# Altium footprint library Tama_PcbLib.PcbLib: 35 footprints (part 1 of 3)
Each footprint in its own frame and in the unit in brackets; x right, y up, seen from the top. Pads: shape width x height; smd on the part's side, far side on the other; paste and mask are expansions set on the pad; w line width, h text height; cw(c..) or ccw(c..) is an arc to the next point about the centre after c.
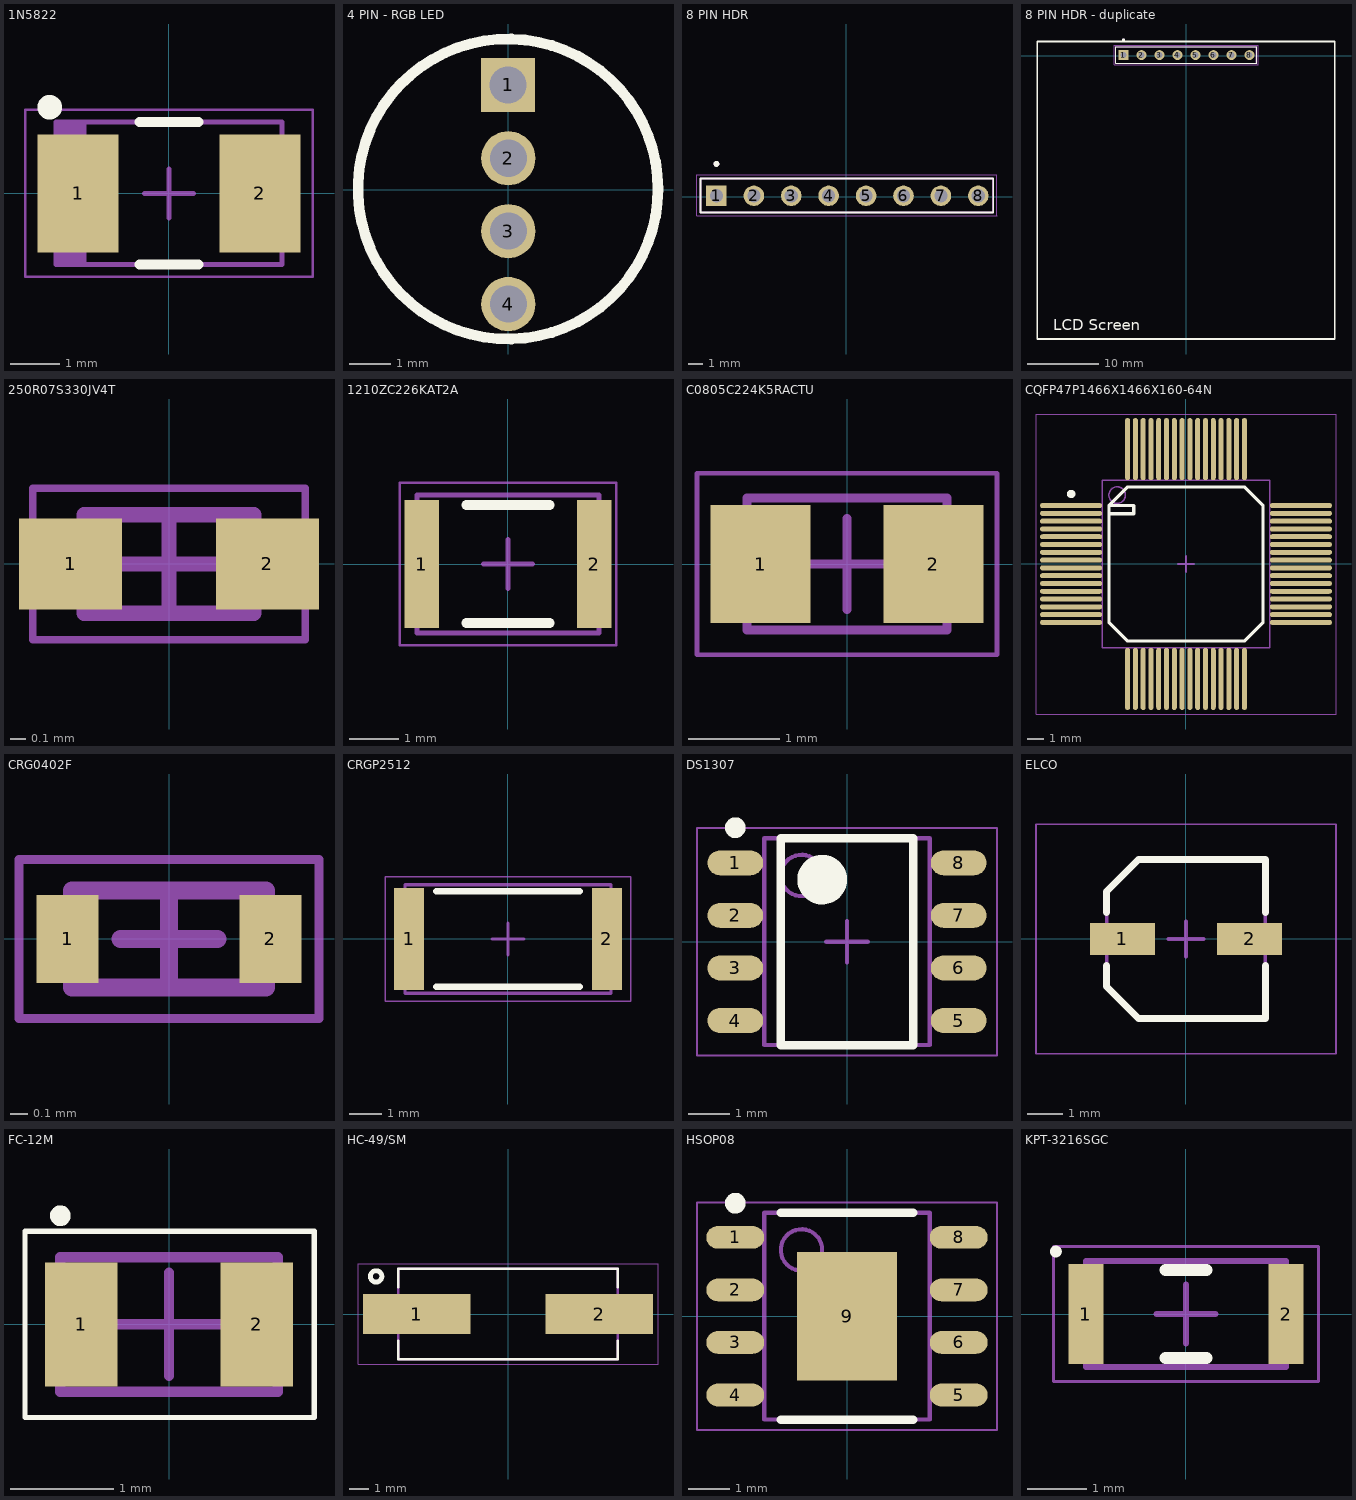
[diagram p0: the footprints below, top view; thin cyan lines are the x and y axes]

## 1N5822 [mm] "1N5822 - SS34"
height 2.44
pads (2):
  rect 1.65x2.4 smd: 1(-1.85,0) 2(1.85,0)
Top Overlay:
  circle w0.25: c-2.425,1.75 r0.125
  lines w0.2: -0.6,-1.45 0.6,-1.45 ; -0.6,1.45 0.6,1.45
Mechanical 13:
  rectangle: -2.3,-1.45 -1.681,1.45
  lines w0.1: -2.3,-1.45 2.3,-1.45 2.3,1.45 -2.3,1.45 -2.3,-1.45
Mechanical 15:
  lines w0.05: -2.925,-1.7 2.925,-1.7 2.925,1.7 -2.925,1.7 -2.925,-1.7
  lines w0.1: -0.5,0 0.5,0 ; 0,-0.5 0,0.5
3D body "1N5822.step": height 2.44, standoff 0, extent -2.52,-1.45 2.52,1.45

## 4 PIN - RGB LED [mm]
pads (4):
  rect 1.3x1.3 hole 0.89: 1(-0.007,2.512)
  round 1.3 hole 0.89: 2(0,0.75) 3(0,-1) 4(0,-2.75)
Top Overlay:
  circle w0.254: c-0.007,0.012 r3.6
3D body "WP154A4.STEP": height 8.61, standoff -24.49, extent -2.924,-2.698 2.976,2.752

## 8 PIN HDR [mm] "Header for LCD display"
pads (8):
  rect 1.398x1.398 hole 0.89: 1(-8.822,0.066)
  round 1.398 hole 0.89: 2(-6.282,0.066) 3(-3.742,0.066) 4(-1.202,0.066) 5(1.338,0.066) 6(3.878,0.066) 7(6.418,0.066) 8(8.958,0.066)
Top Overlay:
  circle w0.2: c-8.822,2.236 r0.1
  lines w0.127: 9.946,1.236 -9.892,1.236 -9.892,-1.077 7.434,-1.077 9.974,-1.077 9.974,1.209
Mechanical 13:
  circle w0.2: c-8.822,2.236 r0.1
  lines w0.127: 9.946,1.236 -9.892,1.236 -9.892,-1.077 9.947,-1.077 9.947,1.236
Mechanical 15:
  lines w0.05: 10.205,-1.258 10.205,1.486 -10.142,1.486 -10.142,-1.281 10.228,-1.281

## 8 PIN HDR - duplicate [mm] "Header for LCD display"
pads (8):
  rect 1.398x1.398 hole 0.89: 1(-8.822,0.066)
  round 1.398 hole 0.89: 2(-6.282,0.066) 3(-3.742,0.066) 4(-1.202,0.066) 5(1.338,0.066) 6(3.878,0.066) 7(6.418,0.066) 8(8.958,0.066)
Top Overlay:
  circle w0.2: c-8.822,2.236 r0.1
  lines w0.127: 9.946,1.236 -9.892,1.236 -9.892,-1.077 7.434,-1.077 9.974,-1.077 9.974,1.209
  lines w0.254: -21,-33 -21,2 9,2 21,2 21,-40 9,-40 -21,-40 -21,-30
  text "LCD Screen" at -18.746,-38.746 h1.52
Mechanical 13:
  circle w0.2: c-8.822,2.236 r0.1
  lines w0.127: 9.946,1.236 -9.892,1.236 -9.892,-1.077 9.947,-1.077 9.947,1.236
Mechanical 15:
  lines w0.05: 10.205,-1.258 10.205,1.486 -10.142,1.486 -10.142,-1.281 10.228,-1.281
3D body "graphic_lcd_nokia_5110.STEP": height 6, standoff -1.02, extent -22.436,-42.422 22.564,2.578

## 250R07S330JV4T [mm] "250R07S330JV4T - 0402 Capacitor"
height 0.61
pads (2):
  rect 0.68x0.6 smd: 1(-0.65,0) 2(0.65,0)
Mechanical 13:
  lines w0.1: -0.56,-0.325 0.56,-0.325 0.56,0.325 -0.56,0.325 -0.56,-0.325
Mechanical 15:
  lines w0.05: -0.9,-0.5 0.9,-0.5 0.9,0.5 -0.9,0.5 -0.9,-0.5
  lines w0.1: -0.325,0 0.325,0 ; 0,-0.325 0,0.325
3D body "250R07S330JV4T.step": height 0.61, standoff 0, extent -0.56,-0.325 0.56,0.325

## 1210ZC226KAT2A [mm] "1210ZC226KAT2A - 1210 SMD capacitor"
height 3.3
pads (2):
  rect 0.7x2.6 smd: 1(-1.75,0) 2(1.75,0)
Top Overlay:
  lines w0.2: -0.85,-1.2 0.85,-1.2 ; -0.85,1.2 0.85,1.2
Mechanical 13:
  lines w0.1: -1.85,-1.4 -1.85,1.4 1.85,1.4 1.85,-1.4 -1.85,-1.4
Mechanical 15:
  lines w0.05: -2.2,-1.65 -2.2,1.65 2.2,1.65 2.2,-1.65 -2.2,-1.65
  lines w0.1: -0.5,0 0.5,0 ; 0,-0.5 0,0.5
3D body: height 0.25, standoff 0, extent -1.85,-1.4 1.85,1.4

## C0805C224K5RACTU [mm] "C0805C224K5RACTU - 0805 SMD Capacitor"
height 1.4
pads (2):
  rect 1.1x1.3 smd: 1(-0.95,0) 2(0.95,0)
Mechanical 13:
  lines w0.1: -1.1,-0.725 1.1,-0.725 1.1,0.725 -1.1,0.725 -1.1,-0.725
Mechanical 15:
  lines w0.05: -1.65,-1 1.65,-1 1.65,1 -1.65,1 -1.65,-1
  lines w0.1: -0.5,0 0.5,0 ; 0,-0.5 0,0.5
3D body "C0805C224K5RACTU.step": height 1.4, standoff 0, extent -1.1,-0.725 1.1,0.725

## CQFP47P1466X1466X160-64N [mm] "CQFP, 64-Leads, Body 14,66x14,66mm, Pitch 0,47mm, IPC Medium Density"
height 1.6
pads (64):
  oval 3.75x0.3 smd: 1(-6.93,3.525) 2(-6.93,3.055) 3(-6.93,2.585) 4(-6.93,2.115) 5(-6.93,1.645) 6(-6.93,1.175) 7(-6.93,0.705) 8(-6.93,0.235) 9(-6.93,-0.235) 10(-6.93,-0.705) 11(-6.93,-1.175) 12(-6.93,-1.645) 13(-6.93,-2.115) 14(-6.93,-2.585) 15(-6.93,-3.055) 16(-6.93,-3.525) 33(6.93,-3.525) 34(6.93,-3.055) 35(6.93,-2.585) 36(6.93,-2.115) 37(6.93,-1.645) 38(6.93,-1.175) 39(6.93,-0.705) 40(6.93,-0.235) 41(6.93,0.235) 42(6.93,0.705) 43(6.93,1.175) 44(6.93,1.645) 45(6.93,2.115) 46(6.93,2.585) 47(6.93,3.055) 48(6.93,3.525)
  oval 0.3x3.75 smd: 17(-3.525,-6.93) 18(-3.055,-6.93) 19(-2.585,-6.93) 20(-2.115,-6.93) 21(-1.645,-6.93) 22(-1.175,-6.93) 23(-0.705,-6.93) 24(-0.235,-6.93) 25(0.235,-6.93) 26(0.705,-6.93) 27(1.175,-6.93) 28(1.645,-6.93) 29(2.115,-6.93) 30(2.585,-6.93) 31(3.055,-6.93) 32(3.525,-6.93) 49(3.525,6.93) 50(3.055,6.93) 51(2.585,6.93) 52(2.115,6.93) 53(1.645,6.93) 54(1.175,6.93) 55(0.705,6.93) 56(0.235,6.93) 57(-0.235,6.93) 58(-0.705,6.93) 59(-1.175,6.93) 60(-1.645,6.93) 61(-2.115,6.93) 62(-2.585,6.93) 63(-3.055,6.93) 64(-3.525,6.93)
Top Overlay:
  circle w0.25: c-6.93,4.225 r0.125
  lines w0.2: -4.65,3.025 -3.15,3.025 -3.15,3.525 -4.65,3.525 ; -4.65,3.525 -4.65,-3.525 -3.525,-4.65 3.525,-4.65 4.65,-3.525 4.65,3.525 3.525,4.65 -3.525,4.65 -4.65,3.525
Mechanical 13:
  circle w0.1: c-4.155,4.155 r0.5
  lines w0.1: -5.055,-5.055 -5.055,5.055 5.055,5.055 5.055,-5.055 -5.055,-5.055
Mechanical 15:
  lines w0.05: -9.05,-9.05 -9.05,9.05 9.05,9.05 9.05,-9.05 -9.05,-9.05
  lines w0.1: -0.5,0 0.5,0 ; 0,-0.5 0,0.5
3D body "CQFP47P1466X1466X160-64N.step": height 1.45, standoff 0, extent -8.455,-8.455 8.455,8.455

## CRG0402F [mm] "CRG0402F - 0402 SMD Resistor"
height 0.4
pads (2):
  rect 0.35x0.5 smd: 1(-0.575,0) 2(0.575,0)
Mechanical 13:
  lines w0.1: -0.55,-0.275 -0.55,0.275 0.55,0.275 0.55,-0.275 -0.55,-0.275
Mechanical 15:
  lines w0.05: -0.85,-0.45 -0.85,0.45 0.85,0.45 0.85,-0.45 -0.85,-0.45
  lines w0.1: -0.275,0 0.275,0 ; 0,-0.275 0,0.275
3D body "CRG0402F.step": height 0.4, standoff 0, extent -0.55,-0.275 0.55,0.275

## CRGP2512 [mm] "CRGP 2512 - SMD Resistor"
height 0.65
pads (2):
  rect 0.95x3.2 smd: 1(-3.1,0) 2(3.1,0)
Top Overlay:
  lines w0.2: -2.25,-1.5 2.25,-1.5 ; -2.25,1.5 2.25,1.5
Mechanical 13:
  lines w0.1: -3.225,-1.7 -3.225,1.7 3.225,1.7 3.225,-1.7 -3.225,-1.7
Mechanical 15:
  lines w0.05: -3.85,-1.95 -3.85,1.95 3.85,1.95 3.85,-1.95 -3.85,-1.95
  lines w0.1: -0.5,0 0.5,0 ; 0,-0.5 0,0.5
3D body "CRGP2512.step": height 0.65, standoff 0, extent -3.225,-1.7 3.225,1.7

## DS1307 [mm] "DS1307"
height 1.75
pads (8):
  oval 1.35x0.6 smd: 1(-2.7,1.905) 2(-2.7,0.635) 3(-2.7,-0.635) 4(-2.7,-1.905) 5(2.7,-1.905) 6(2.7,-0.635) 7(2.7,0.635) 8(2.7,1.905)
Top Overlay:
  circle w0.25: c-2.7,2.755 r0.125
  circle w0.6: c-0.6,1.5 r0.3
  lines w0.2: -1.6,-2.5 -1.6,2.5 1.6,2.5 1.6,-2.5 -1.6,-2.5
Mechanical 13:
  circle w0.1: c-1.1,1.6 r0.5
  lines w0.1: -2,-2.5 -2,2.5 2,2.5 2,-2.5 -2,-2.5
Mechanical 15:
  lines w0.05: -3.625,-2.75 -3.625,2.75 3.625,2.75 3.625,-2.75 -3.625,-2.75
  lines w0.1: -0.5,0 0.5,0 ; 0,-0.5 0,0.5
3D body "DS1307.step": height 1.75, standoff 0, extent -3,-2.5 3,2.5

## ELCO [mm] "ELCO CAP"
height 6.1
pads (2):
  rect 1.85x0.9 smd: 1(-1.8,0) 2(1.8,0)
Top Overlay:
  lines w0.2: -2.25,-0.75 -2.25,-1.35 -1.35,-2.25 2.25,-2.25 2.25,-0.75 ; -2.25,0.75 -2.25,1.35 -1.35,2.25 2.25,2.25 2.25,0.75
Mechanical 13:
  lines w0.1: -2.25,-1.35 -2.25,1.35 -1.35,2.25 2.25,2.25 2.25,-2.25 -1.35,-2.25 -2.25,-1.35
Mechanical 15:
  lines w0.05: -4.25,-3.25 4.25,-3.25 4.25,3.25 -4.25,3.25 -4.25,-3.25
  lines w0.1: -0.5,0 0.5,0 ; 0,-0.5 0,0.5
3D body "ELCO.step": height 6.1, standoff 0, extent -2.425,-2.25 2.425,2.25

## FC-12M [mm] "FC-12M - Clock"
height 0.6
pads (2):
  rect 0.7x1.2 smd: 1(-0.85,0) 2(0.85,0)
Top Overlay:
  circle w0.1: c-1.05,1.05 r0.05
  lines w0.05: -1.393,-0.9 -1.393,0.9 1.404,0.9 1.404,-0.9 -1.393,-0.9
Mechanical 13:
  lines w0.1: -1.05,-0.65 1.05,-0.65 1.05,0.65 -1.05,0.65 -1.05,-0.65
Mechanical 15:
  lines w0.1: -0.5,0 0.5,0 ; 0,-0.5 0,0.5
3D body "FC-12M.step": height 0.6, standoff 0, extent -1.115,-0.65 1.115,0.65

## HC-49/SM [mm] "Crystal 11.0592MHz"
pads (2):
  rect 5.6x2.1 smd: 1(-4.75,0) 2(4.75,0)
Top Overlay:
  circle w0.254: c-6.858,1.956 r0.296
  lines w0.127: -5.7,-1.4 -5.7,-2.35 5.7,-2.35 5.7,-1.4 ; -5.7,1.4 -5.7,2.35 5.7,2.35 5.7,1.4
Mechanical 13:
  lines w0.127: -5.7,-2.35 5.7,-2.35 5.7,2.35 -5.7,2.35 -5.7,-2.35
Mechanical 15:
  lines w0.05: -7.8,-2.6 7.8,-2.6 7.8,2.6 -7.8,2.6 -7.8,-2.6
3D body "ABLS2-11.059MHZ-B4Y-T--3DModel-STEP-400430.STEP": height 3.18, standoff -0.09, extent -6.35,-2.349 6.35,2.349

## HSOP08 [mm] "SOP8 - TP4056"
height 1.7
pads (9):
  oval 1.4x0.55 smd: 1(-2.7,1.905) 2(-2.7,0.635) 3(-2.7,-0.635) 4(-2.7,-1.905) 5(2.7,-1.905) 6(2.7,-0.635) 7(2.7,0.635) 8(2.7,1.905)
  rect 2.41x3.1 smd: 9(0,0)
Top Overlay:
  circle w0.25: c-2.7,2.73 r0.125
  lines w0.2: -1.6,-2.5 1.6,-2.5 ; -1.6,2.5 1.6,2.5
Mechanical 13:
  circle w0.1: c-1.1,1.6 r0.5
  lines w0.1: -2,-2.5 -2,2.5 2,2.5 2,-2.5 -2,-2.5
Mechanical 15:
  lines w0.05: -3.625,-2.75 -3.625,2.75 3.625,2.75 3.625,-2.75 -3.625,-2.75
  lines w0.1: -0.5,0 0.5,0 ; 0,-0.5 0,0.5
3D body "HSOP08.step": height 1.7, standoff 0, extent -3,-2.5 3,2.5

## KPT-3216SGC [mm] "SMD led"
height 0.95
pads (2):
  rect 0.6x1.7 smd: 1(-1.7,0) 2(1.7,0)
Top Overlay:
  circle w0.1: c-2.212,1.062 r0.05
  lines w0.2: -0.35,-0.75 0.35,-0.75 ; -0.35,0.75 0.35,0.75
Mechanical 13:
  lines w0.1: -1.7,-0.9 1.7,-0.9 1.7,0.9 -1.7,0.9 -1.7,-0.9
Mechanical 15:
  lines w0.05: -2.25,-1.15 2.25,-1.15 2.25,1.15 -2.25,1.15 -2.25,-1.15
  lines w0.1: -0.5,0 0.5,0 ; 0,-0.5 0,0.5
3D body "KPT-3216SGC.step": height 0.95, standoff 0, extent -1.7,-0.9 1.7,0.9